# Altium schematic symbol library REG103.SchLib: 1 symbol
Pins are listed as number, name and electrical type; pins without a type are passive.

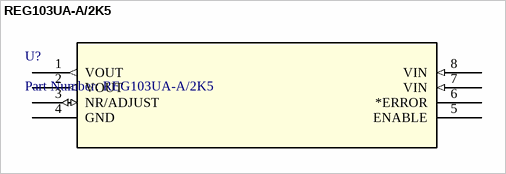
[diagram p0: symbol REG103UA-A/2K5]

## REG103UA-A/2K5
designator U?, comment Part Number: REG103UA-A/2K5
No Description Available; Manufacturer: Texas Instruments; Built_By: EMA_UL_Team; Vendor: Texas Instruments; Manufacturer_Part_Number: REG103UA-A/2K5; Copyright: Copyright (C) 2018 Accelerated Designs. All rights reserved; RefDes: RefDes; Type: DEV; Value: Value
footprint D8
footprint D8
pins: 1 VOUT (out), 2 VOUT (out), 3 NR/ADJUST (io), 4 GND (power), 5 ENABLE, 6 *ERROR, 7 VIN (in), 8 VIN (in)